# EAGLE library part USB (library eq_Control_Board)
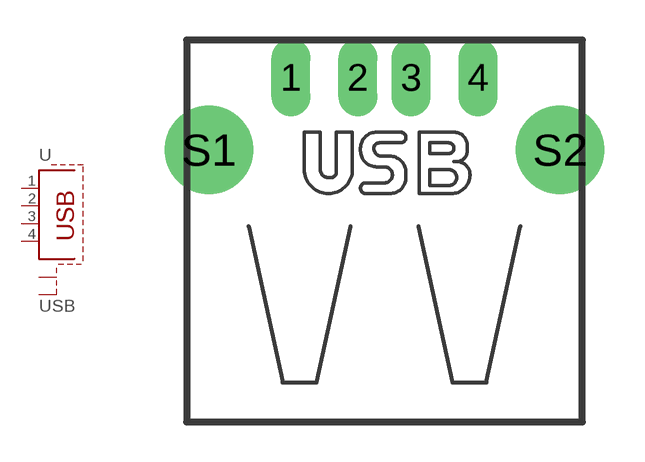
[diagram p2: symbol with the pads of USB; footprint USB]

Designator prefix -

## USB  [USB]
1  1  pas
2  2  pas
3  3  pas
4  4  pas
S1  S1  pas
S2  S2  pas

## Footprint USB (pad centres in mm)
drill 0.95 long: 1 -3.5,5.25; 2 -1,5.25; 3 1,5.25; 4 3.5,5.25
drill 2.3 pad 2.9: S1 -6.57,2.54; S2 6.57,2.54